# EAGLE library part NAU8822L (library mastrogippo)
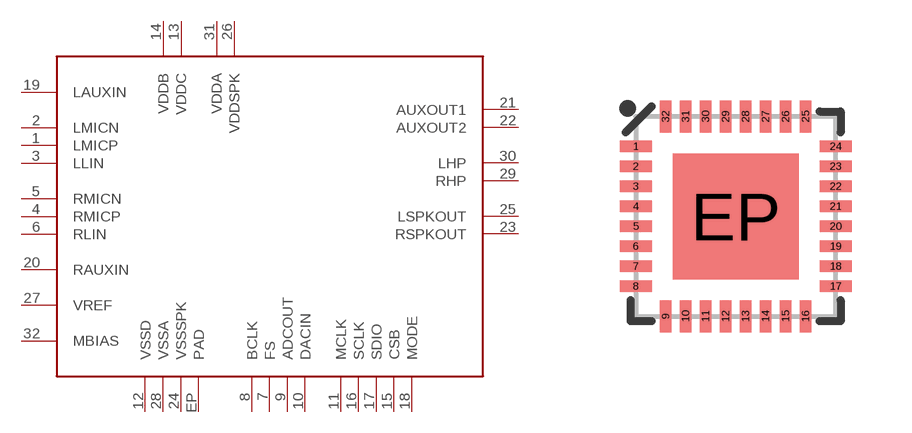
[diagram p32: symbol with the pads of QFN32-5X5MM; footprint QFN32-5X5MM]

Designator prefix -

## NAU8822L  [QFN32-5X5MM]
1  LMICP
2  LMICN
3  LLIN
4  RMICP
5  RMICN
6  RLIN
7  FS
8  BCLK
9  ADCOUT
10  DACIN
11  MCLK
12  VSSD
13  VDDC
14  VDDB
15  CSB
16  SCLK
17  SDIO
18  MODE
19  LAUXIN
20  RAUXIN
21  AUXOUT1
22  AUXOUT2
23  RSPKOUT
24  VSSSPK
25  LSPKOUT
26  VDDSPK
27  VREF
28  VSSA
29  RHP
30  LHP
31  VDDA
32  MBIAS
EP  PAD

## Footprint QFN32-5X5MM (pad centres in mm)
32-pin QFN 5.0 x 5.0 mm, 0.5mm pitch Used by ESP8266 Datasheet <http://espressif.com/sites/default/files/documentation/0a-esp8266_datasheet_en_v4.4.pdf>
smd 0.8 x 0.285: 1 -2.5,1.75; 2 -2.5,1.25; 3 -2.5,0.75; 4 -2.5,0.25; 5 -2.5,-0.25; 6 -2.5,-0.75; 7 -2.5,-1.25; 8 -2.5,-1.75; 17 2.5,-1.75; 18 2.5,-1.25; 19 2.5,-0.75; 20 2.5,-0.25; 21 2.5,0.25; 22 2.5,0.75; 23 2.5,1.25; 24 2.5,1.75
smd 0.285 x 0.8: 9 -1.75,-2.5; 10 -1.25,-2.5; 11 -0.75,-2.5; 12 -0.25,-2.5; 13 0.25,-2.5; 14 0.75,-2.5; 15 1.25,-2.5; 16 1.75,-2.5; 25 1.75,2.5; 26 1.25,2.5; 27 0.75,2.5; 28 0.25,2.5; 29 -0.25,2.5; 30 -0.75,2.5; 31 -1.25,2.5; 32 -1.75,2.5
smd 3.15 x 3.15: EP 0,0